# EAGLE library part NTHD3101F (library transistor-power)
Power MOSFET and Schottky Diode -20 V, FETKY (TM), P-Channel, 4.4 A, with 4.1 A Schottky Barrier Diode, ChipFET (TM) Source: http://www.onsemi.com/pub/Collateral/NTHD3101F-D.PDF
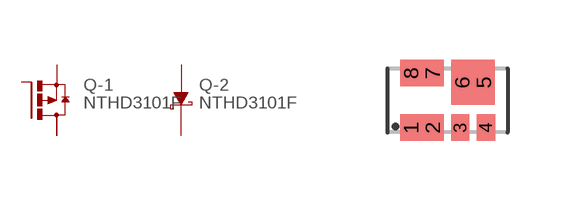
[diagram p7: symbol with the pads of CHIPFET-1206A; footprint CHIPFET-1206A]

Designator prefix Q; gates -1=MOSFET_P-2D -2=SCHOTTKY-DIODE-2A2C

## NTHD3101F  [CHIPFET-1206A]
1  -2:A  pas
2  -2:A  pas
3  -1:S  pas
4  -1:G  pas
5  -1:D  pas
6  -1:D  pas
7  -2:C  pas
8  -2:C  pas

## Footprint CHIPFET-1206A (pad centres in mm)
ChipFET CASE 1206A03 STYLE 3 Source: http://www.onsemi.com/pub/Collateral/NTHD3101F-D.PDF
smd 0.55 x 0.66: 1 -0.91,-0.68; 2 -0.37,-0.68; 7 -0.37,0.68; 8 -0.91,0.68
smd 0.457 x 0.66: 3 0.32,-0.68; 4 0.96,-0.68
smd 0.55 x 1.12: 5 0.91,0.45; 6 0.37,0.45